# EAGLE library part DM3CSSF (library SDcard)
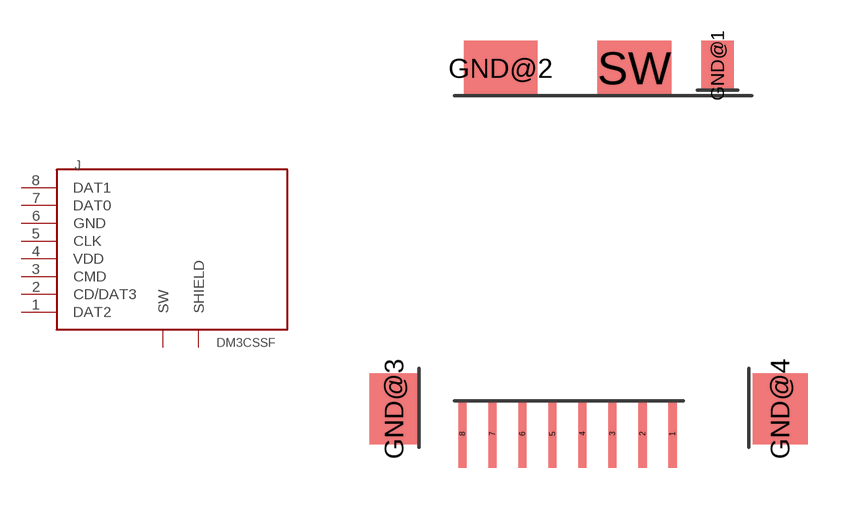
[diagram p0: symbol with the pads of 798-DM3CSSF; footprint 798-DM3CSSF]

Designator prefix J

## DM3CSSF  [798-DM3CSSF]
1  DAT2
2  CD/DAT3
3  CMD
4  VDD
5  CLK
6  GND
7  DAT0
8  DAT1
GND@1  SHIELD
GND@2  SHIELD
GND@3  SHIELD
GND@4  SHIELD
SW  SW

## Footprint 798-DM3CSSF (pad centres in mm)
smd 0.3 x 2.5: 1 0,-13.8; 2 -1.1,-13.8; 3 -2.2,-13.8; 4 -3.3,-13.8; 5 -4.4,-13.8; 6 -5.5,-13.8; 7 -6.6,-13.8; 8 -7.7,-13.8
smd 1.2 x 1.8: GND@1 1.65,-0.3
smd 2.7 x 2: GND@2 -6.3,-0.4; SW -1.4,-0.4
smd 1.8 x 2.6: GND@3 -10.2,-12.9
smd 2 x 2.6: GND@4 3.95,-12.9